# Altium integrated library SolarPCB2.0.IntLib: 54 symbols
Pins are listed as number, name and electrical type; pins without a type are passive.

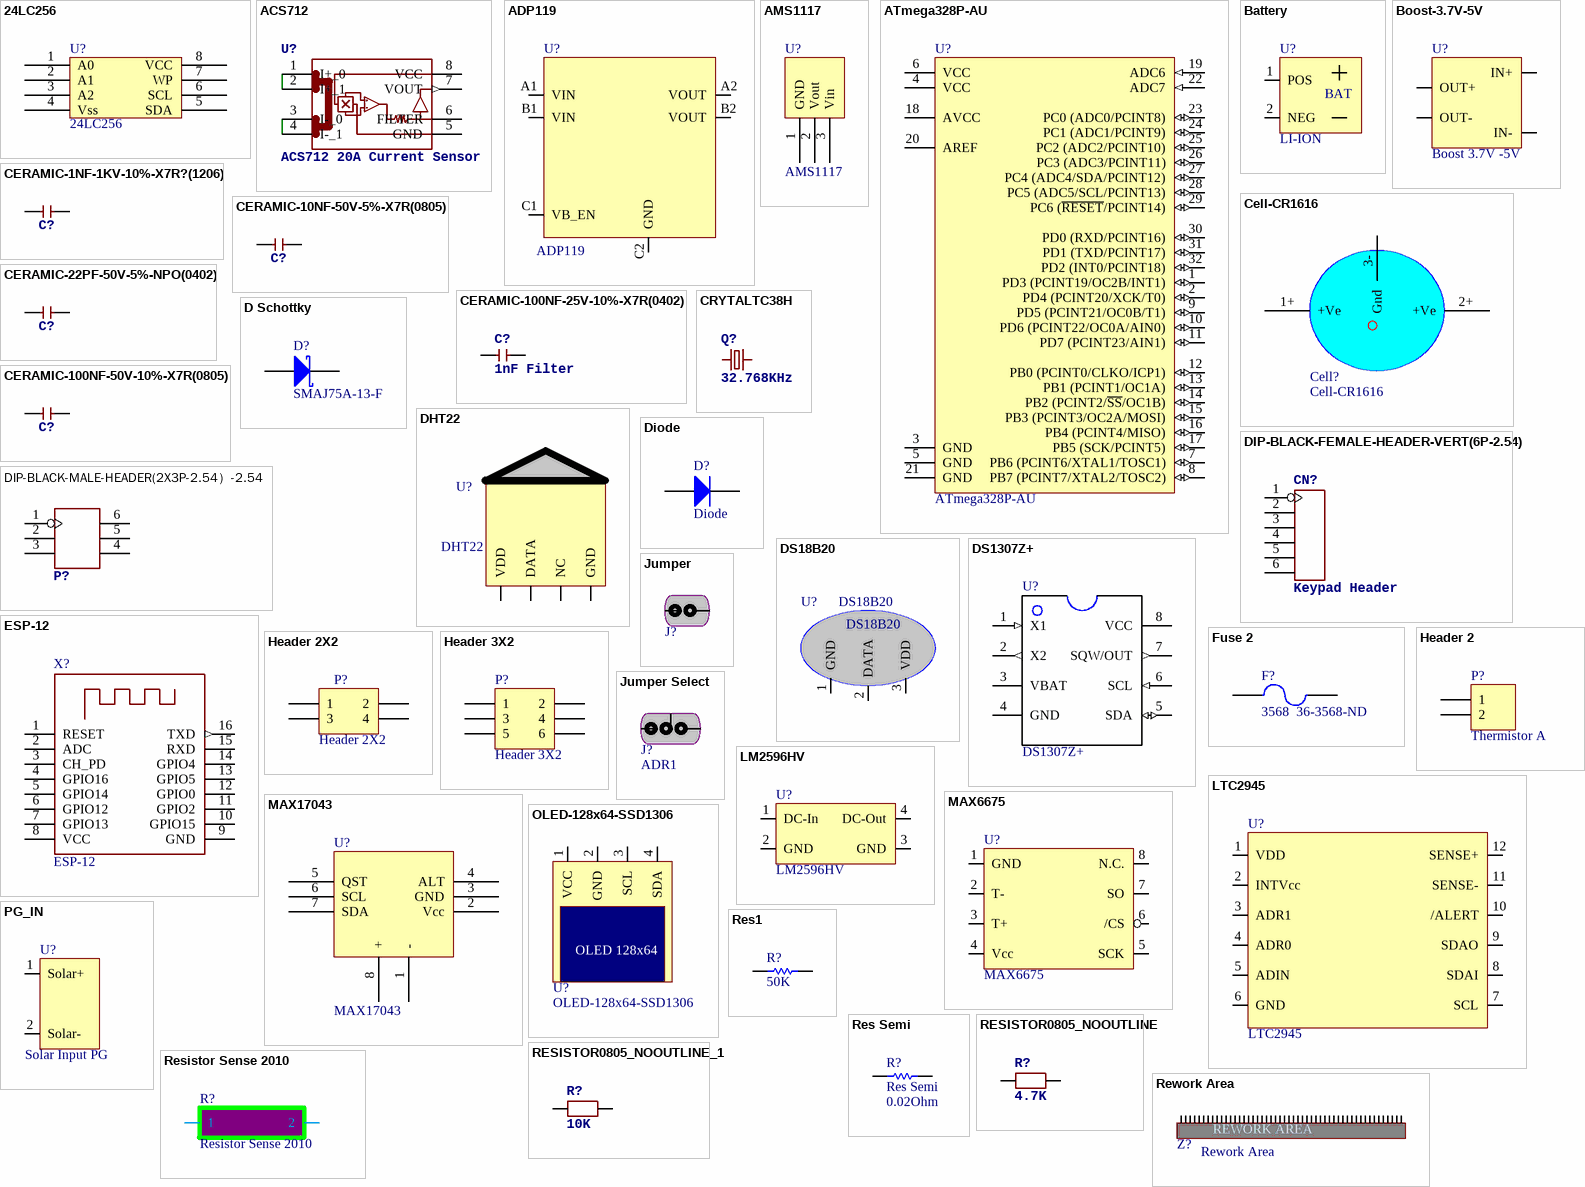
[diagram p0: symbols 24LC256 to Rework Area]

## 24LC256
designator U?
footprint SO08
pins: 1 A0, 2 A1, 3 A2, 4 Vss, 5 SDA, 6 SCL, 7 WP, 8 VCC

## ACS712
designator U?, comment ACS712 20A Current Sensor
footprint SO08
pins: 1 I+_0, 2 I+_1, 3 I-_0, 4 I-_1, 5 GND (power), 6 FILTER, 7 VOUT (out), 8 VCC (power)

## ADP119
designator U?
footprint BGA3x2
pins: A1 VIN (power), A2 VOUT (power), B1 VIN (power), B2 VOUT (power), C1 VB_EN (power), C2 GND (power)

## AMS1117
designator U?
3.3V Regulator
footprint AMS1117-3.3
pins: 1 GND (power), 2 Vout (power), 3 Vin (power)

## ATmega328P-AU
designator U?
8-bit AVR Microcontroller, 32KB Flash, 1KB EEPROM, 2KB SRAM, 32-pin TQFP, Industrial Grade (-40°C to 85°C); Published: 1-Apr-2010; DatasheetVersion: revA, Jan-2010; PackageVersion: revB, Oct-2001; PackageReference: 32A; Publisher: Altium Limited; PackageDescription: 32-Lead, 7x7x1.0 mm Body, 0.8mm Lead Pitch, Thin Profile Plastic Quad Flat Package (TQFP); Supplier 1: Digi-Key; Supplier Part Number 1: ATMEGA328P-AU-ND; Supplier 2: Farnell; Supplier Part Number 2: 1715486; Supplier 3: Mouser; Supplier Part Number 3: 556-ATMEGA328P-AU; Code_JEDEC: MS-026-ABA; ComponentLink1Description: Manufacturer Link; ComponentLink1URL: http://www.atmel.com/products/avr/default.asp?; ComponentLink2Description: ATmega48A/48PA/88A/88PA/168A/168PA/328/328P Datasheet; ComponentLink2URL: http://www.atmel.com/dyn/resources/prod_documents/8271.pdf; ComponentLink3Description: ATmega48A/48PA/88A/88PA/168A/168PA/328/328P Summary; ComponentLink3URL: http://www.atmel.com/dyn/resources/prod_documents/8271S.pdf; ComponentLink4Description: Atmel.com Home; ComponentLink4URL: http://www.atmel.com
footprint 32A_N (Thin QFP, 32-Leads, Body 7x7mm, Pitch 0.8mm, IPC Medium Density)
footprint 32A_L (Thin QFP, 32-Leads, Body 7x7mm, Pitch 0.8mm, IPC High Density)
footprint 32A_M (Thin QFP, 32-Leads, Body 7x7mm, Pitch 0.8mm, IPC Low Density)
footprint TQFP32-0.8-7X7MM
footprint TQFP32-0.8-7X7MM
pins: 1 PD3 (PCINT19/OC2B/INT1) (io), 2 PD4 (PCINT20/XCK/T0) (io), 3 GND (power), 4 VCC (power), 5 GND (power), 6 VCC (power), 7 PB6 (PCINT6/XTAL1/TOSC1) (io), 8 PB7 (PCINT7/XTAL2/TOSC2) (io), 9 PD5 (PCINT21/OC0B/T1) (io), 10 PD6 (PCINT22/OC0A/AIN0) (io), 11 PD7 (PCINT23/AIN1) (io), 12 PB0 (PCINT0/CLKO/ICP1) (io), 13 PB1 (PCINT1/OC1A) (io), 14 PB2 (PCINT2/~{SS}/OC1B) (io), 15 PB3 (PCINT3/OC2A/MOSI) (io), 16 PB4 (PCINT4/MISO) (io), 17 PB5 (SCK/PCINT5) (io), 18 AVCC (power), 19 ADC6 (in), 20 AREF, 21 GND (power), 22 ADC7 (in), 23 PC0 (ADC0/PCINT8) (io), 24 PC1 (ADC1/PCINT9) (io), 25 PC2 (ADC2/PCINT10) (io), 26 PC3 (ADC3/PCINT11) (io), 27 PC4 (ADC4/SDA/PCINT12) (io), 28 PC5 (ADC5/SCL/PCINT13) (io), 29 PC6 (~{RESET}/PCINT14) (io), 30 PD0 (RXD/PCINT16) (io), 31 PD1 (TXD/PCINT17) (io), 32 PD2 (INT0/PCINT18) (io)

## Battery
designator U?, comment LI-ION
Li Ion Battery 3.7V
footprint MHDR1X2 (Connector; Header; 2 Position)
footprint H2-2.54
footprint Cell-Holder (18056)
footprint Cell-Holder (18056)
pins: 1 POS (power), 2 NEG (power)
text: BAT

## Boost-3.7V-5V
designator U?, comment Boost 3.7V -5V
Boost converter module from Cell to 5V
footprint Boost Cov (3.7 to 5V)
pins: IN+ (power), IN- (power), OUT+ (power), OUT- (power)

## Cell-CR1616
designator Cell?
footprint CellCR1616
footprint CellCR1616
pins: 1+ +Ve, 2+ +Ve, 3- Gnd

## CERAMIC-1NF-1KV-10%-X7R?(1206)
designator C?, comment 302010189  (value not drawn)
MPN: CC1206KKX7RCBB102
footprint C1206
pins: 1, 2

## CERAMIC-10NF-50V-5%-X7R(0805)
designator C?, comment 302010175  (value not drawn)
MPN: CC0805JRX7R9BB103
footprint C0805
pins: 1, 2

## CERAMIC-22PF-50V-5%-NPO(0402)
designator C?, comment 302010018  (value not drawn)
MPN: CC0402JRNPO9BN220
footprint C0402
footprint C0805 (Chip Capacitor, Body 2.0x1.3mm, IPC High Density)
pins: 1, 2

## CERAMIC-100NF-25V-10%-X7R(0402)
designator C?, comment 1nF Filter
1nF Filter Cap as per Datasheet; MPN: CC0402KRX7R8BB104
footprint C0402
footprint C0805 (Chip Capacitor, Body 2.0x1.3mm, IPC High Density)
pins: 1, 2

## CERAMIC-100NF-50V-10%-X7R(0805)
designator C?, comment 302010165  (value not drawn)
100nF; MPN: CC0805KRX7R9BB104
footprint C0805
pins: 1, 2

## CRYTALTC38H
designator Q?, comment 32.768KHz
footprint TC38H
footprint RTC-XTAL (RTC Crystal 32.768KHz)
pins: 1, 2

## D Schottky
designator D?, comment SMAJ75A-13-F
SMA; Published: 8-Jun-2000; LatestRevisionDate: 17-Jul-2002; LatestRevisionNote: Re-released for DXP Platform.; PackageReference: SMB; Publisher: Altium Limited; PackageDescription: DO-214-AA/SMB; 2 C-Bend Leads; Body 5.3 x 3.6 mm, inc. leads (LxW); Code_JEDEC: DO-214-AA
footprint SMB (DO-214-AA/SMB; 2 C-Bend Leads; Body 5.3 x 3.6 mm, inc. leads (LxW))
simulation model SKYDIODE (Diode)
signal-integrity model D Schottky
footprint SMAJ5.0-TVS (400W SURFACE MOUNT TRANSIENT VOLTAGE SUPPRESSOR)
pins: 1 A, 2 K

## DHT22
designator U?
Temperature and Humidity Sensor
footprint DHT22_AM2303_HORIZ
pins: DATA (power), GND (power), NC (power), VDD (power)

## Diode
designator D?
Default Diode; Published: 8-Jun-2000; LatestRevisionDate: 17-Jul-2002; LatestRevisionNote: Re-released for DXP Platform.; PackageVersion: Sep-1996; PackageReference: SMC; Publisher: Altium Limited; PackageDescription: DO-214-AB/SMC; 2 C-Bend Leads; Body 7.9 x 5.9 mm, inc. leads (LxW); Code_JEDEC: DO-214-AB
footprint SMC (DO-214-AB/SMC; 2 C-Bend Leads; Body 7.9 x 5.9 mm, inc. leads (LxW))
simulation model DIODE (Diode)
signal-integrity model Diode
footprint 1206 Diode SMD (CD1206-S01575CT-ND)
pins: 1 A, 2 K

## DIP-BLACK-FEMALE-HEADER-VERT(6P-2.54)
designator CN?, comment Keypad Header
MPN: F185-1106A1BSYC1
footprint H6-2.54
pins: 1, 2, 3, 4, 5, 6

## DIP-BLACK-MALE-HEADER(2X3P-2.54）-2.54
designator P?, comment 320020077  (value not drawn)
MPN: P125-12A1BS116A1
footprint H2X3-2.54
footprint HDR1X6 (Connector; Header; 6 Position)
pins: 1, 2, 3, 4, 5, 6

## DS18B20
designator U?
On Board Temperature Sensor
footprint TO-92 (TO, Flat Index; 3 In-Line, Axial Leads; Body Dia. 4.6mm; Leads 0.41 x 0.39 mm (max))
pins: 1 GND (power), 2 DATA (power), 3 VDD (power)

## DS1307Z+
designator U?
RTC circuit%3B I2C%3B NV SRAM%3B 56B%3B 4.5%C3%B75.5VDC%3B SO8; MF: Maxim Integrated; Availability: Good; MP: DS1307Z+; Price: 2.54 USD; Package: SOIC-8 Maxim Integrated; Value: *
footprint SO08
pins: 1 X1 (in), 2 X2 (out), 3 VBAT (power), 4 GND, 5 SDA (io), 6 SCL (in), 7 SQW/OUT (out), 8 VCC (power)

## ESP-12
designator X?
footprint ESP-12
pins: 1 RESET, 2 ADC, 3 CH_PD, 4 GPIO16, 5 GPIO14, 6 GPIO12, 7 GPIO13, 8 VCC (power), 9 GND (power), 10 GPIO15, 11 GPIO2, 12 GPIO0, 13 GPIO5, 14 GPIO4, 15 RXD, 16 TXD (out)

## Fuse 2
designator F?, comment 3568  36-3568-ND
3568  36-3568-ND FUSE HOLDER; Published: 8-Jun-2000; LatestRevisionDate: 17-Jul-2002; LatestRevisionNote: Re-released for DXP Platform.; PackageReference: PIN-W2/E2.8; Publisher: Altium Limited; PackageDescription: Thru-Hole; 2 Leads
footprint PIN-W2/E2.8 (Thru-Hole; 2 Leads)
simulation model FUSE (Spice Subcircuit)
footprint Fuse Block Blade PCB (BK-6010)
footprint Fuse Holder Mini BLADE ATC (20A Fuse Holder Thru)
pins: 1, 2

## Header 2
designator P?, comment Thermistor A
Header, 2-Pin; LatestRevisionDate: 17-Jul-2002; LatestRevisionNote: Re-released for DXP Platform.; Publisher: Altium Limited
footprint HDR1X2 (Connector; Header; 2 Position)
signal-integrity model Connector
pins: 1, 2

## Header 2X2
designator P?
Header, 2-Pin, Dual row; LatestRevisionDate: 17-Jul-2002; LatestRevisionNote: Re-released for DXP Platform.; Publisher: Altium Limited
footprint HDR2X2 (Connector; Header; 2x2 Position)
signal-integrity model Connector
pins: 1, 2, 3, 4

## Header 3X2
designator P?
Header, 3-Pin, Dual row; LatestRevisionDate: 17-Jul-2002; LatestRevisionNote: Re-released for DXP Platform.; Publisher: Altium Limited
footprint HDR2X3 (Connector; Header; 3x2 Position)
signal-integrity model Connector
pins: 1, 2, 3, 4, 5, 6

## Jumper
designator J?, comment Jumper 2Pin  (value not drawn)
2.54, Pin header
footprint H2-2.54
pins: 1 (power), 2 (power)

## Jumper Select
designator J?, comment ADR1
2.54mm Pitch male header
footprint H3-2.54
pins: 1 (power), 2 (power), 3 (power)

## LM2596HV
designator U?
DC DC Adjustable Buck converter input upto 60V
footprint LM2596HVS DC-DC step-down module
pins: 1 DC-In (power), 2 GND (power), 3 GND (power), 4 DC-Out (power)

## LTC2945
designator U?
V I P Monitor I2C Interface
footprint LTC2945 (12MSOP)
pins: 1 VDD (power), 2 INTVcc (power), 3 ADR1 (power), 4 ADR0 (power), 5 ADIN (power), 6 GND (power), 7 SCL (power), 8 SDAI (power), 9 SDAO (power), 10 /ALERT (power), 11 SENSE- (power), 12 SENSE+ (power)

## MAX6675
designator U?
K-Thermocoupleto-Digital  Converter
pins: 1 GND (power), 2 T- (power), 3 T+ (power), 4 Vcc (power), 5 SCK (power), 6 /CS (power), 7 SO (power), 8 N.C. (power)

## MAX17043
designator U?
Battery Fuel Guage
footprint MAX17043 (Fuel Guage)
pins: 1 -, 2 Vcc, 3 GND, 4 ALT, 5 QST, 6 SCL, 7 SDA, 8 +

## OLED-128x64-SSD1306
designator U?
OLED Display OLED-128x64-SSD1306
footprint OLED-128x64 (SSD1306 OLED 128x64 I2C)
pins: 1 VCC (power), 2 GND (power), 3 SCL (power), 4 SDA (power)
text: OLED 128x64

## PG_IN
designator U?, comment Solar Input PG
footprint SCREW TERMINAL (PG Connector)
footprint KF128-2P (7.62mm pitch power connector)
pins: 1 Solar+ (power), 2 Solar- (power)

## Res1
designator R?, comment 50K
Resistor; Published: 8-Jun-2000; LatestRevisionDate: 17-Jul-2002; LatestRevisionNote: Re-released for DXP Platform.; PackageReference: AXIAL-0.3; Publisher: Altium Limited; PackageDescription: Axial Device, Thru-Hole; 2 Leads; 0.3 in Pin Spacing; Value: 50K
footprint AXIAL-0.3 (Axial Device, Thru-Hole; 2 Leads; 0.3 in Pin Spacing)
simulation model RESISTOR (Resistor)
signal-integrity model Res
pins: 1, 2

## Res Semi
designator R?  value 0.02Ohm
Semiconductor Resistor; Published: 8-Jun-2000; LatestRevisionDate: 17-Jul-2002; LatestRevisionNote: Re-released for DXP Platform.; PackageReference: AXIAL-0.5; Publisher: Altium Limited; PackageDescription: Axial Device, Thru-Hole; 2 Leads; 0.5 in Pin Spacing
footprint AXIAL-0.5 (Axial Device, Thru-Hole; 2 Leads; 0.5 in Pin Spacing)
simulation model RES (Semiconductor Resistor)
signal-integrity model Res Semi
pins: 1, 2

## RESISTOR0805_NOOUTLINE
designator R?, comment 4.7K
Resistors   For new designs, use the packages preceded by an '_' character since they are more reliable:   The following footprints should be used on most boards: _0402 - Standard footprint for regular board layouts  _0603 - Standard footprint for regular board layouts  _0805 - Standard footprint for regular board layouts  _1206 - Standard footprint for regular board layouts       For extremely tight-pitch boards where space is at a premium, the following 'micro-pitch' footprints can be used (smaller pads, no silkscreen outline, etc.): _0402MP - Micro-pitch footprint for very dense/compact boards  _0603MP - Micro-pitch footprint for very dense/compact boards  _0805MP - Micro-pitch footprint for very dense/compact boards  _1206MP - Micro-pitch footprint for very dense/compact boards
footprint 0805-NO
footprint R0805
pins: 1, 2

## RESISTOR0805_NOOUTLINE_1
designator R?, comment 10K
Resistors   For new designs, use the packages preceded by an '_' character since they are more reliable:   The following footprints should be used on most boards: _0402 - Standard footprint for regular board layouts  _0603 - Standard footprint for regular board layouts  _0805 - Standard footprint for regular board layouts  _1206 - Standard footprint for regular board layouts       For extremely tight-pitch boards where space is at a premium, the following 'micro-pitch' footprints can be used (smaller pads, no silkscreen outline, etc.): _0402MP - Micro-pitch footprint for very dense/compact boards  _0603MP - Micro-pitch footprint for very dense/compact boards  _0805MP - Micro-pitch footprint for very dense/compact boards  _1206MP - Micro-pitch footprint for very dense/compact boards
footprint 0805-NO
footprint R0805
pins: 1, 2

## Resistor Sense 2010
designator R?
0.02 Ohm Resistor Current Sense; Value: 0.02Ohm 1% 1W
footprint Resistor Sense 2010 (2010 Resistor)
pins: 1 (power), 2 (power)

## Rework Area
designator Z?
footprint Rework
pins: 1 (power), 2 (power), 3 (power), 4 (power), 5 (power), 6 (power), 7 (power), 8 (power), 9 (power), 10 (power), 11 (power), 12 (power), 13 (power), 14 (power), 15 (power), 16 (power), 17 (power), 18 (power), 19 (power), 20 (power), 21 (power), 22 (power), 23 (power), 24 (power), 25 (power), 26 (power), 27 (power), 28 (power), 29 (power), 30 (power), 31 (power), 32 (power), 33 (power), 34 (power), 35 (power), 36 (power), 37 (power), 38 (power), 39 (power), 40 (power), 41 (power), 42 (power), 43 (power), 44 (power), 45 (power), 46 (power), 47 (power), 48 (power), 49 (power), 50 (power)
text: REWORK AREA

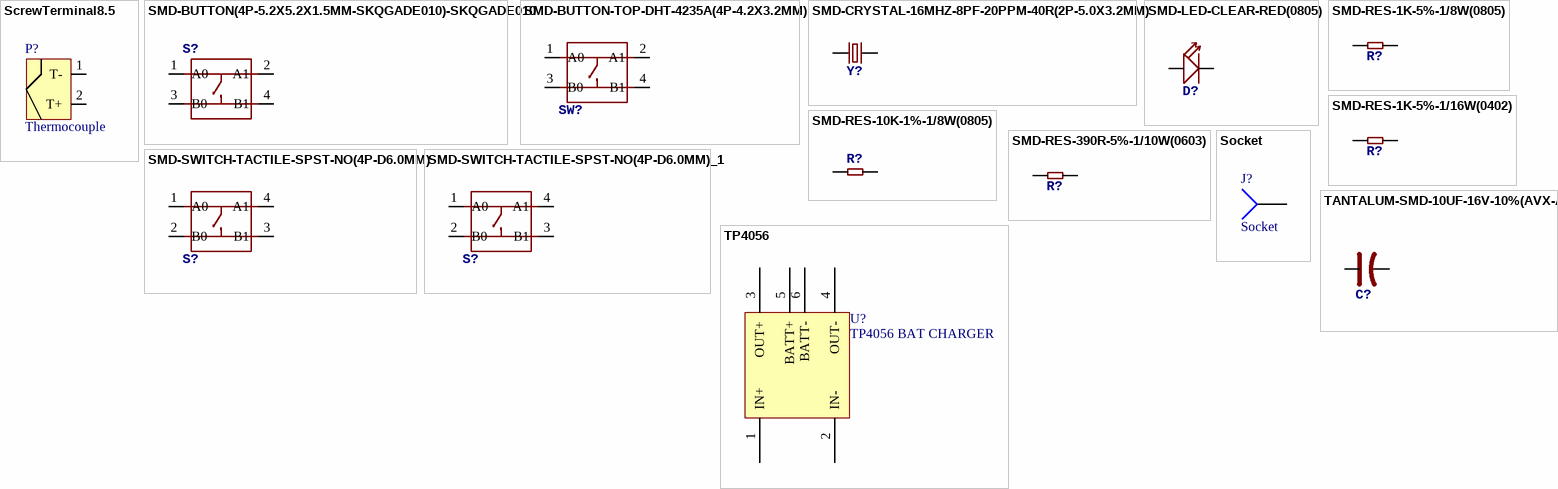
[diagram p1: symbols ScrewTerminal8.5 to TP4056]

## ScrewTerminal8.5
designator P?, comment Thermocouple
K Type Termocouple
footprint ScrewTerminal8.5 (KF8500 Greeen Screw Terminal for Thermocouple)
pins: 1 T- (power), 2 T+ (power)

## SMD-BUTTON(4P-5.2X5.2X1.5MM-SKQGADE010)-SKQGADE010
designator S?, comment 311020017  (value not drawn)
MPN: SKQGADE010
footprint SW4-SMD-5.2X5.2X1.5MM
pins: 1 A0, 2 A1, 3 B0, 4 B1

## SMD-BUTTON-TOP-DHT-4235A(4P-4.2X3.2MM)
designator SW?, comment 311020045  (value not drawn)
MPN: DHT-4235A
footprint SW4-SMD-4.2X3.2X2.5MM
pins: 1 A0, 2 A1, 3 B0, 4 B1

## SMD-CRYSTAL-16MHZ-8PF-20PPM-40R(2P-5.0X3.2MM)
designator Y?, comment 306010054  (value not drawn)
MPN: X053201602002
footprint X2-SMD-5.0X3.2X1.3MM
footprint SMT_XTAL
pins: 1, 2

## SMD-LED-CLEAR-RED(0805)
designator D?, comment 304090046  (value not drawn)
MPN: 17-215SURC/S530-A2/TR8
footprint LED-0805
pins: +, -

## SMD-RES-1K-5%-1/8W(0805)
designator R?, comment 301010311  (value not drawn)
MPN: RC0805JR-071KL
footprint R0805
pins: 1, 2

## SMD-RES-1K-5%-1/16W(0402)
designator R?, comment 301010006  (value not drawn)
MPN: RC0402JR-071KL
footprint R0402
pins: 1, 2

## SMD-RES-10K-1%-1/8W(0805)
designator R?, comment 301010361  (value not drawn)
10K; MPN: RC0805FR-0710KL
footprint R0805
pins: 1, 2

## SMD-RES-390R-5%-1/10W(0603)
designator R?, comment 301010297  (value not drawn)
MPN: RC0603JR-07390RL
footprint R0603
pins: 1, 2

## SMD-SWITCH-TACTILE-SPST-NO(4P-D6.0MM)
designator S?, comment 311020004  (value not drawn)
MPN: DTSM-62K-S-V-T/R(SN431)
footprint SW4-SMD-6.0X6.0X5.0MM
pins: 1 A0, 2 B0, 3 B1, 4 A1

## SMD-SWITCH-TACTILE-SPST-NO(4P-D6.0MM)_1
designator S?, comment 311020004  (value not drawn)
MPN: DTSM-62K-S-V-T/R(SN431)
footprint SW4-SMD-6.0X6.0X5.0MM
footprint SW4-SMD-6.0X6.0X5.0MM
footprint SW4-SMD-6.0X6.0X5.0MM
footprint SW4-SMD-6.0X6.0X5.0MM
pins: 1 A0, 2 B0, 3 B1, 4 A1

## Socket
designator J?
LatestRevisionDate: 17-Jul-2002; LatestRevisionNote: Re-released for DXP Platform.; Publisher: Altium Limited
footprint PIN1 (Connector; Socket)
signal-integrity model Connector
pins: 1

## TANTALUM-SMD-10UF-16V-10%(AVX-A)
designator C?, comment 302020002  (value not drawn)
10uF Cap Decoupling 16V; MPN: TAJA106K016RNJ
footprint AVX-A
pins: +, -

## TP4056
designator U?, comment TP4056 BAT CHARGER
TP4056 Module
footprint TP4056 (TP-4056 Module)
pins: 1 IN+ (power), 2 IN- (power), 3 OUT+ (power), 4 OUT- (power), 5 BATT+ (power), 6 BATT- (power)